# EAGLE library part DMGC3025LSD (library PP_PowerIC)
Manufacturer Part #: DMHC3025LSD-13 Manufacturer: Diodes Incorporated Description: MOSFET 30V Comp ENH Mode H-Bridge 20V VGSS
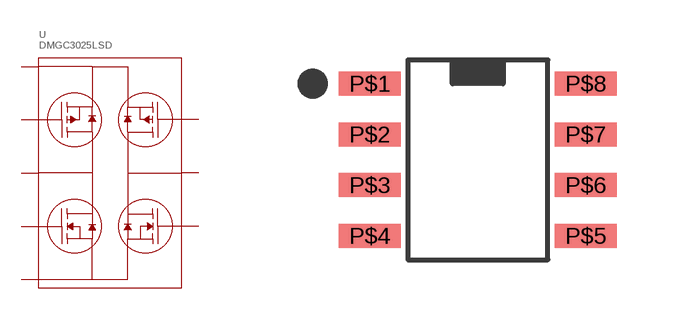
[diagram p9: symbol with the pads of DMHC3025LSD_SO-8; footprint DMHC3025LSD_SO-8]

Designator prefix U

## DMGC3025LSD-13  [DMHC3025LSD_SO-8]
P$1  N1G
P$2  P1D/N1D
P$3  N1S/N2S
P$4  N2G
P$5  P2G
P$6  P2D/N2D
P$7  P1S/P2S
P$8  P1G

## Footprint DMHC3025LSD_SO-8 (pad centres in mm)
smd 1.55 x 0.6: P$1 -2.7,1.905; P$2 -2.7,0.635; P$3 -2.7,-0.635; P$4 -2.7,-1.905; P$5 2.7,-1.905; P$6 2.7,-0.635; P$7 2.7,0.635; P$8 2.7,1.905